# Altium footprint library Crystal and Oscillators.PcbLib: 7 footprints
Each footprint in its own frame and in the unit in brackets; x right, y up, seen from the top. Pads: shape width x height; smd on the part's side, far side on the other; paste and mask are expansions set on the pad; w line width, h text height; cw(c..) or ccw(c..) is an arc to the next point about the centre after c.
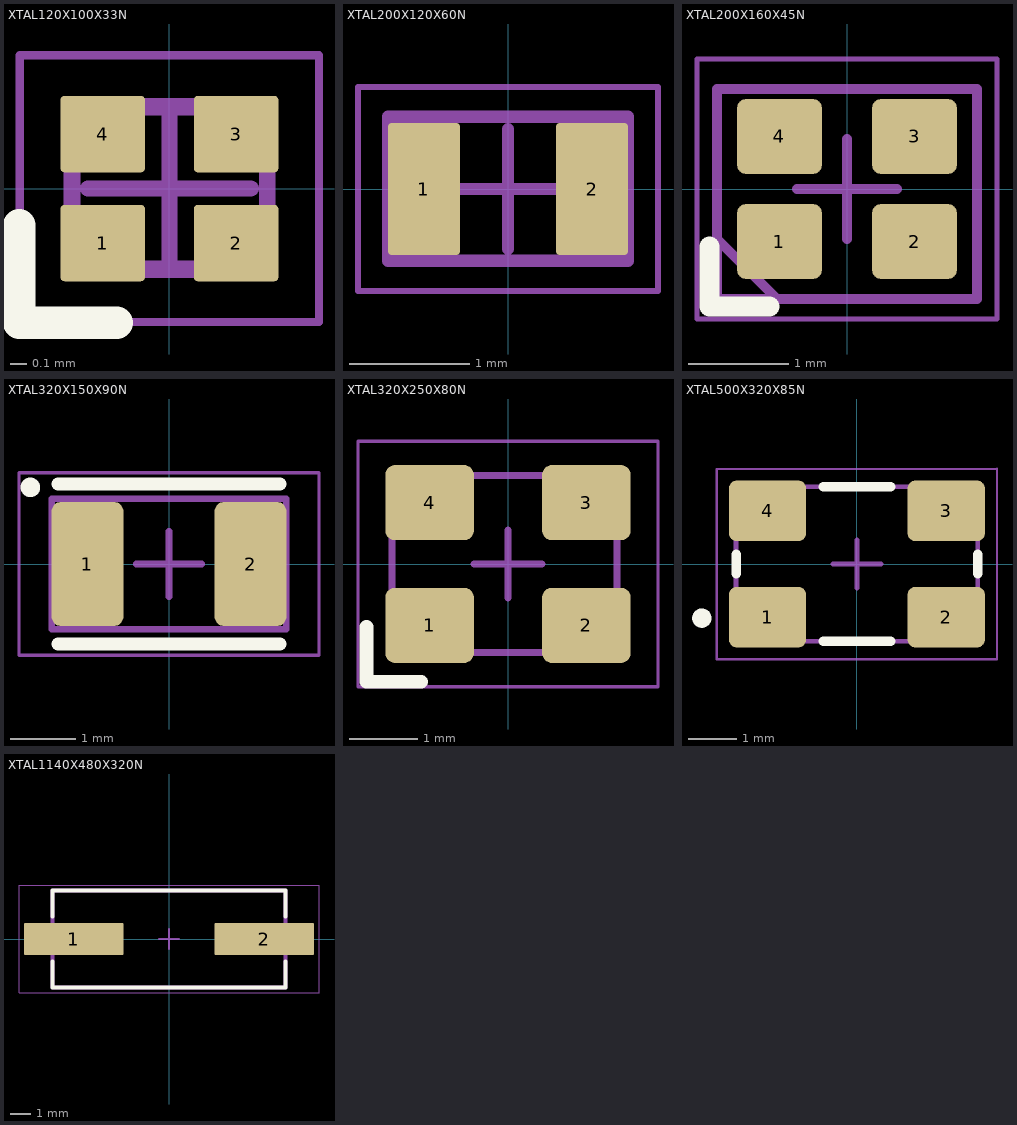
[diagram p0: the footprints below, top view; thin cyan lines are the x and y axes]

## XTAL120X100X33N [mm] "Crystal, 4 pins; 1.2mm L X 1.0mm W X 0.33mm H Body"
height 0.33
pads (4):
  rrect10% 0.52x0.47 smd paste+0 mask+0.05: 1(-0.41,-0.335) 2(0.41,-0.335) 3(0.41,0.335) 4(-0.41,0.335)
Top Overlay:
  lines w0.2: -0.925,-0.225 -0.925,-0.825 -0.325,-0.825
Top Component Outline:
  lines w0.1: -0.6,-0.5 0.6,-0.5 0.6,0.5 -0.6,0.5 -0.6,-0.5
Top Courtyard:
  lines w0.05: -0.92,-0.82 0.92,-0.82 0.92,0.82 -0.92,0.82 -0.92,-0.82
Top Component Center:
  lines w0.1: -0.5,0 0.5,0 ; 0,-0.5 0,0.5
Top Designator:
  text ".Designator" at -4.04,-0.476 h2
Top Assembly:
  lines w0.1: -0.596,-0.493 0.604,-0.493 0.604,0.507 -0.596,0.507 -0.596,-0.493
  text ".Designator" at -4.04,-0.476 h2
3D body "XTAL120X100X33.step": height 0.33, standoff 0, extent -0.6,-0.5 0.6,0.5

## XTAL200X120X60N [mm] "Crystal, 2 pins; 2.0mm L X 1.2mm W X 0.6mm H Body"
height 0.6
pads (2):
  rrect10% 0.6x1.1 smd paste+0 mask+0.05: 1(-0.7,0) 2(0.7,0)
Top Component Outline:
  lines w0.1: -1,-0.6 1,-0.6 1,0.6 -1,0.6 -1,-0.6
Top Courtyard:
  lines w0.05: -1.25,-0.85 -1.25,0.85 1.25,0.85 1.25,-0.85 -1.25,-0.85
Top Component Center:
  lines w0.1: -0.5,0 0.5,0 ; 0,-0.5 0,0.5
Top Designator:
  text ".Designator" at -4.04,-0.476 h2
Top Assembly:
  lines w0.1: -0.999,-0.597 1.001,-0.597 1.001,0.603 -0.999,0.603 -0.999,-0.597
  text ".Designator" at -4.04,-0.476 h2
3D body "XTAL200X120X60.step": height 0.6, standoff 0, extent -1,-0.6 1,0.6

## XTAL200X160X45N [mm] "Crystal, 4 pins; 2.0mm L X 1.6mm W X 0.45mm H Body"
height 0.45
pads (4):
  rrect25% 0.85x0.75 smd paste+0 mask+0.05: 1(-0.675,-0.525) 2(0.675,-0.525) 3(0.675,0.525) 4(-0.675,0.525)
Top Overlay:
  lines w0.2: -1.375,-0.575 -1.375,-1.175 -0.775,-1.175
Top Component Outline:
  lines w0.1: -1.3,-0.5 -0.7,-1.1 ; -1.3,-1.1 -1.3,1 1.3,1 1.3,-1.1 -1.3,-1.1
Top Courtyard:
  lines w0.05: -1.5,-1.3 -1.5,1.3 1.5,1.3 1.5,-1.3 -1.5,-1.3
Top Component Center:
  lines w0.1: -0.5,0 0.5,0 ; 0,-0.5 0,0.5
Top Designator:
  text ".Designator" at -4.04,-0.476 h2
Top Assembly:
  lines w0.1: -1.3,-0.5 -0.7,-1.1 ; -1.3,-1.1 -1.3,1 1.3,1 1.3,-1.1 -1.3,-1.1
  text ".Designator" at -4.04,-0.476 h2
3D body "XTAL200X160X45.step": height 0.5, standoff 0, extent -1,-0.8 1,0.8

## XTAL320X150X90N [mm] "Crystal, 2 pins; 3.2mm L X 1.5mm W X 0.9mm H Body"
height 0.9
pads (2):
  rrect25% 1.1x1.9 smd paste+0 mask+0.05: 1(-1.25,0) 2(1.25,0)
Top Overlay:
  circle w0.2: c-2.125,1.175 r0.05
  lines w0.2: -1.7,-1.225 1.7,-1.225 ; -1.7,1.225 1.7,1.225
Top Component Outline:
  lines w0.1: -1.8,0.4 -1.2,1 ; -1.8,-1 -1.8,1 1.8,1 1.8,-1 -1.8,-1
Top Courtyard:
  lines w0.05: -2.3,-1.4 2.3,-1.4 2.3,1.4 -2.3,1.4 -2.3,-1.4
Top Component Center:
  lines w0.1: -0.5,0 0.5,0 ; 0,-0.5 0,0.5
Top Designator:
  text ".Designator" at -4.04,-0.476 h2
Top Assembly:
  lines w0.1: -1.8,0.4 -1.2,1 ; -1.8,-1 -1.8,1 1.8,1 1.8,-1 -1.8,-1
  text ".Designator" at -4.04,-0.476 h2
3D body "XTAL320X150X90.step": height 0.9, standoff 0, extent -1.6,-0.75 1.6,0.75

## XTAL320X250X80N [mm] "Crystal, 4 pins; 3.2mm L X 2.5mm W X 0.8mm H Body"
height 0.8
pads (4):
  rrect25% 1.3x1.1 smd paste+0 mask+0.05: 1(-1.15,-0.9) 2(1.15,-0.9) 3(1.15,0.9) 4(-1.15,0.9)
Top Overlay:
  lines w0.2: -2.075,-0.925 -2.075,-1.725 -1.275,-1.725
Top Component Outline:
  lines w0.1: -1.7,-0.7 -1.1,-1.3 ; -1.7,-1.3 1.6,-1.3 1.6,1.3 -1.7,1.3 -1.7,-1.3
Top Courtyard:
  lines w0.05: -2.2,-1.8 2.2,-1.8 2.2,1.8 -2.2,1.8 -2.2,-1.8
Top Component Center:
  lines w0.1: -0.5,0 0.5,0 ; 0,-0.5 0,0.5
Top Designator:
  text ".Designator" at -4.04,-0.476 h2
Top Assembly:
  lines w0.1: -1.7,-0.7 -1.1,-1.3 ; -1.7,-1.3 1.6,-1.3 1.6,1.3 -1.7,1.3 -1.7,-1.3
  text ".Designator" at -4.04,-0.476 h2
3D body "XTAL320X250X80.step": height 0.8, standoff 0, extent -1.6,-1.25 1.6,1.25

## XTAL500X320X85N [mm] "Crystal, 4 pins; 5.0mm L X 3.2mm W X 0.85mm H Body"
height 0.85
pads (4):
  rrect25% 1.6x1.25 smd paste+0 mask+0.05: 1(-1.85,-1.1) 2(1.85,-1.1) 3(1.85,1.1) 4(-1.85,1.1)
Top Overlay:
  circle w0.2: c-3.21,-1.12 r0.1
  lines w0.2: -2.5,-0.2 -2.5,0.2 ; -0.7,-1.6 0.7,-1.6 ; -0.7,1.6 0.7,1.6 ; 2.5,-0.2 2.5,0.2
Top Component Outline:
  lines w0.1: -2.5,-1.6 -2.5,1.6 2.5,1.6 2.5,-1.6 -2.5,-1.6
Top Courtyard:
  lines w0.05: -2.9,-1.975 -2.9,1.96 2.9,1.975 2.9,-1.975 -2.9,-1.975
Top Component Center:
  lines w0.1: -0.5,0 0.5,0 ; 0,-0.5 0,0.5
Top Designator:
  text ".Designator" at -4.04,-0.476 h2
Top Assembly:
  lines w0.1: -2.5,-1.6 -2.5,1.6 2.5,1.6 2.5,-1.6 -2.5,-1.6
  text ".Designator" at -4.04,-0.476 h2
3D body "XTAL500X320X85.step": height 0.85, standoff 0, extent -2.5,-1.6 2.5,1.6

## XTAL1140X480X320N [mm] "Crystal, 2 pins; 11.4mm L X 4.8mm W X 3.2mm H Body"
height 3.2
pads (2):
  rrect5% 4.91x1.57 smd paste+0 mask+0.05: 1(-4.7,0) 2(4.7,0)
Top Overlay:
  lines w0.2: -5.75,-1.11 -5.75,-2.4 5.75,-2.4 5.75,-1.11 ; -5.75,1.11 -5.75,2.4 5.75,2.4 5.75,1.11
Top Component Outline:
  lines w0.2: -5.75,-2.4 -5.75,2.4 5.75,2.4 5.75,-2.4 -5.75,-2.4
Top Courtyard:
  lines w0.05: -7.41,-2.65 -7.41,2.65 7.41,2.65 7.41,-2.65 -7.41,-2.65
Top Component Center:
  lines w0.1: -0.5,0 0.5,0 ; 0,-0.5 0,0.5
Top Designator:
  text ".Designator" at -4.04,-0.476 h2
Top Assembly:
  lines w0.2: -5.75,-2.4 -5.75,2.4 5.75,2.4 5.75,-2.4 -5.75,-2.4
  text ".Designator" at -4.04,-0.476 h2
3D body "XTAL1140X480X320.step": height 3.2, standoff 0, extent -6.6,-2.4 6.6,2.4